# Altium integrated library Dallas Power Mgt Switching Circuit.IntLib: 4 symbols
Pins are listed as number, name and electrical type; pins without a type are passive.

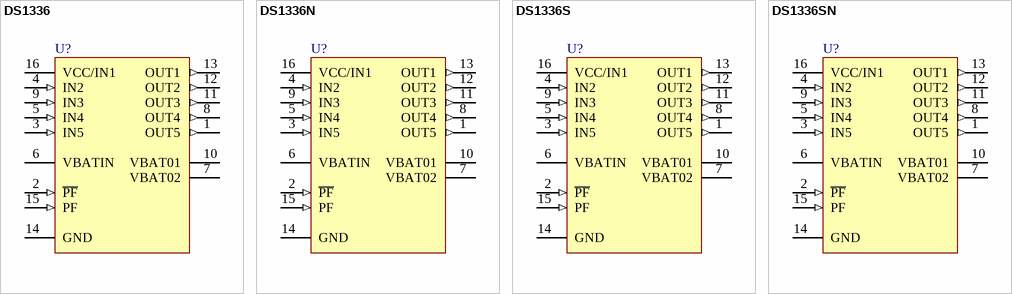
[diagram p0: symbols DS1336 to DS1336SN]

## DS1336
designator U?
Afterburner Chip; Published: 13-Oct-2000; LatestRevisionDate: 17-Jul-2002; LatestRevisionNote: Re-released for DXP Platform.; DatasheetVersion: 6-May-1999; PackageVersion: 1999; PackageReference: DIP16; Publisher: Altium Limited; PackageDescription: DIP, 16-Pin, Row Spacing 7.62 mm, Pitch 2.54 mm; ComponentLink1Description: Manufacturer Link; ComponentLink1URL: http://www.maxim-ic.com/; ComponentLink2Description: Datasheet; ComponentLink2URL: http://pdfserv.maxim-ic.com/en/ds/DS1336.pdf
footprint DIP16 (DIP, 16-Leads, Row Spacing 7.62mm, Pitch 2.54mm, Body 19.31x6.35mm)
pins: 1 OUT5 (out), 2 ~{PF} (in), 3 IN5 (in), 4 IN2 (in), 5 IN4 (in), 6 VBATIN (power), 7 VBAT02, 8 OUT4 (out), 9 IN3 (in), 10 VBAT01 (power), 11 OUT3 (out), 12 OUT2 (out), 13 OUT1 (out), 14 GND (power), 15 PF (in), 16 VCC/IN1 (power)

## DS1336N
designator U?
Afterburner Chip; Published: 13-Oct-2000; LatestRevisionDate: 17-Jul-2002; LatestRevisionNote: Re-released for DXP Platform.; DatasheetVersion: 6-May-1999; PackageVersion: 1999; PackageReference: DIP16; Publisher: Altium Limited; PackageDescription: DIP, 16-Pin, Row Spacing 7.62 mm, Pitch 2.54 mm; ComponentLink1Description: Manufacturer Link; ComponentLink1URL: http://www.maxim-ic.com/; ComponentLink2Description: Datasheet; ComponentLink2URL: http://pdfserv.maxim-ic.com/en/ds/DS1336.pdf
footprint DIP16 (DIP, 16-Leads, Row Spacing 7.62mm, Pitch 2.54mm, Body 19.31x6.35mm)
pins: 1 OUT5 (out), 2 ~{PF} (in), 3 IN5 (in), 4 IN2 (in), 5 IN4 (in), 6 VBATIN (power), 7 VBAT02, 8 OUT4 (out), 9 IN3 (in), 10 VBAT01 (power), 11 OUT3 (out), 12 OUT2 (out), 13 OUT1 (out), 14 GND (power), 15 PF (in), 16 VCC/IN1 (power)

## DS1336S
designator U?
Afterburner Chip; Published: 13-Oct-2000; LatestRevisionDate: 13-Apr-2006; LatestRevisionNote: IPC-7351 Footprint Added.; DatasheetVersion: 6-May-1999; PackageVersion: 1999; PackageReference: SOIC16W; Publisher: Altium Limited; PackageDescription: 16-Pin Small Outline Integrated Circuit 1.27 mm Pitch; ComponentLink1Description: Manufacturer Link; ComponentLink1URL: http://www.maxim-ic.com/; ComponentLink2Description: Datasheet; ComponentLink2URL: http://pdfserv.maxim-ic.com/en/ds/DS1336.pdf
footprint SOIC16W_N (SOIC, 16-Leads, Body 10.3x7.5mm, Pitch 1.27mm, IPC Medium Density)
footprint SOIC16W_L (SOIC, 16-Leads, Body 10.3x7.5mm, Pitch 1.27mm, IPC High Density)
footprint SOIC16W_M (SOIC, 16-Leads, Body 10.3x7.5mm, Pitch 1.27mm, IPC Low Density)
pins: 1 OUT5 (out), 2 ~{PF} (in), 3 IN5 (in), 4 IN2 (in), 5 IN4 (in), 6 VBATIN (power), 7 VBAT02, 8 OUT4 (out), 9 IN3 (in), 10 VBAT01 (power), 11 OUT3 (out), 12 OUT2 (out), 13 OUT1 (out), 14 GND (power), 15 PF (in), 16 VCC/IN1 (power)

## DS1336SN
designator U?
Afterburner Chip; Published: 13-Oct-2000; LatestRevisionDate: 13-Apr-2006; LatestRevisionNote: IPC-7351 Footprint Added.; DatasheetVersion: 6-May-1999; PackageVersion: 1999; PackageReference: SOIC16W; Publisher: Altium Limited; PackageDescription: 16-Pin Small Outline Integrated Circuit 1.27 mm Pitch; ComponentLink1Description: Manufacturer Link; ComponentLink1URL: http://www.maxim-ic.com/; ComponentLink2Description: Datasheet; ComponentLink2URL: http://pdfserv.maxim-ic.com/en/ds/DS1336.pdf
footprint SOIC16W_N (SOIC, 16-Leads, Body 10.3x7.5mm, Pitch 1.27mm, IPC Medium Density)
footprint SOIC16W_L (SOIC, 16-Leads, Body 10.3x7.5mm, Pitch 1.27mm, IPC High Density)
footprint SOIC16W_M (SOIC, 16-Leads, Body 10.3x7.5mm, Pitch 1.27mm, IPC Low Density)
pins: 1 OUT5 (out), 2 ~{PF} (in), 3 IN5 (in), 4 IN2 (in), 5 IN4 (in), 6 VBATIN (power), 7 VBAT02, 8 OUT4 (out), 9 IN3 (in), 10 VBAT01 (power), 11 OUT3 (out), 12 OUT2 (out), 13 OUT1 (out), 14 GND (power), 15 PF (in), 16 VCC/IN1 (power)